# Altium schematic symbol library BL8541.SchLib: 1 symbol
Pins are listed as number, name and electrical type; pins without a type are passive.

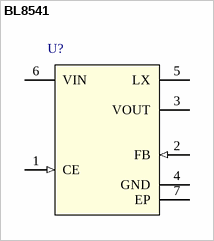
[diagram p0: symbol BL8541]

## BL8541
designator U?
pins: 1 CE (in), 2 FB (in), 3 VOUT (power), 4 GND (power), 5 LX, 6 VIN (power), 7 EP (power)